# EAGLE library part SN74AVC2T245RSWR (library SN74AVC2T245RSWR)
Dual-Bit, 2-DIR pin Dual-Supply Bus Transceiver w/ Configurable Voltage Translation, 3-State Output Source: Datasheet <http://www.ti.com/lit/ds/symlink/sn74avc2t245.pdf>
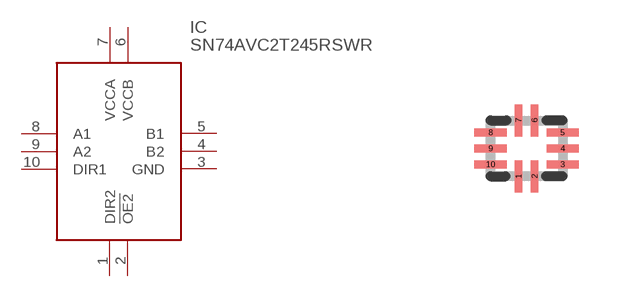
[diagram p0: symbol with the pads of RSW(RPUQFNN10); footprint RSW(RPUQFNN10)]

Designator prefix IC

## SN74AVC2T245RSWR (Description: Dual-Bit, 2-DIR pin Dual-Supply Bus Transceiver w/ Configurable Voltage Translation, 3-State Output; Height: mm; Manufacturer_Name: Texas Instruments; Manufacturer_Part_Number: SN74AVC2T245RSWR; Mouser_Part_Number: 595-SN74AVC2T245RSWR; Mouser_Price-Stock: https://www.mouser.co.uk/ProductDetail/Texas-Instruments/SN74AVC2T245RSWR?qs=59Rn2Bt6jP10ddXtSUJOPw%3D%3D)  [RSW(RPUQFNN10)]
1  DIR2
2  !OE2
3  GND  pwr
4  B2
5  B1
6  VCCB  pwr
7  VCCA  pwr
8  A1
9  A2
10  DIR1

## Footprint RSW(RPUQFNN10) (pad centres in mm)
RSW(RPUQFNN10)
smd 0.2 x 0.8: 1 -0.2,-0.7; 2 0.2,-0.7; 6 0.2,0.7; 7 -0.2,0.7
smd 0.8 x 0.2: 3 0.9,-0.4; 4 0.9,0; 5 0.9,0.4; 8 -0.9,0.4; 9 -0.9,0; 10 -0.9,-0.4